# EAGLE library part MOTOR_DRV8835_DSS_12 (library 1_ZeroUI)
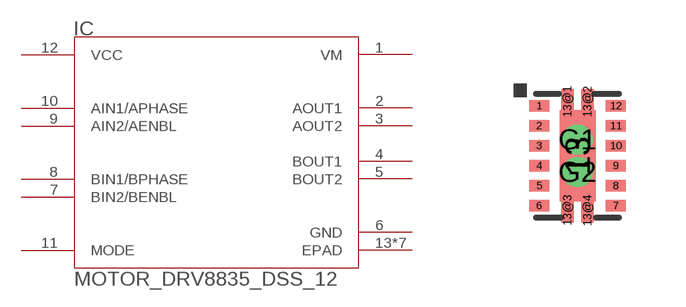
[diagram p10: symbol with the pads of DSS12_P9X2; footprint DSS12_P9X2]

Designator prefix IC

## MOTOR_DRV8835_DSS_12 (MANUFACTURER_PART_NUMBER: drv8835_dss_12; VENDOR: Texas Instruments)  [DSS12_P9X2]
1  VM  pwr
2  AOUT1  out
3  AOUT2  out
4  BOUT1  out
5  BOUT2  out
6  GND  pwr
7  BIN2/BENBL  in
8  BIN1/BPHASE  in
9  AIN2/AENBL  in
10  AIN1/APHASE  in
11  MODE  in
12  VCC  pwr
13  EPAD  pas
13@1  EPAD  pas
13@2  EPAD  pas
13@3  EPAD  pas
13@4  EPAD  pas
G1  EPAD  pas
G2  EPAD  pas

## Footprint DSS12_P9X2 (pad centres in mm)
smd 0.5 x 0.28: 1 -0.959,1.25; 2 -0.959,0.75; 3 -0.959,0.25; 4 -0.959,-0.25; 5 -0.959,-0.75; 6 -0.959,-1.25; 7 0.959,-1.25; 8 0.959,-0.75; 9 0.959,-0.25; 10 0.959,0.25; 11 0.959,0.75; 12 0.959,1.25
smd 0.9 x 2.3: 13 0,0
smd 0.305 x 0.61: 13@1 -0.25,1.36; 13@2 0.25,1.36; 13@3 -0.25,-1.36; 13@4 0.25,-1.37
drill 0.254 pad 0.508: G1 0,0.406; G2 0,-0.406